# EAGLE library part RP2040 (library RaspberryPi RP2040_PicoPi)
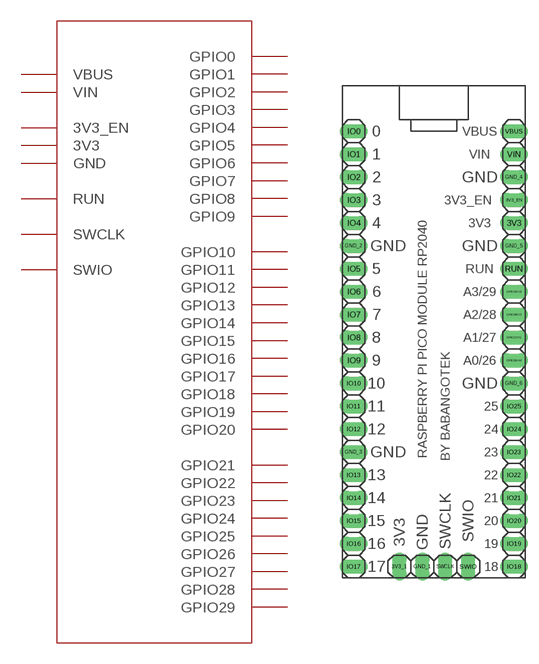
[diagram p0: symbol with the pads of RP2040; footprint RP2040]

Designator prefix -

## RP2040  [RP2040]
3V3  3V3
3V3_1  3V3
3V3_EN  3V3_EN
GND_1  GND
GND_2  GND
GND_3  GND
GND_4  GND
GND_5  GND
GND_6  GND
GPIO26/A0  GPIO26
GPIO27/A1  GPIO27
GPIO28/A2  GPIO28
GPIO29/A3  GPIO29
IO0  GPIO0
IO1  GPIO1
IO2  GPIO2
IO3  GPIO3
IO4  GPIO4
IO5  GPIO5
IO6  GPIO6
IO7  GPIO7
IO8  GPIO8
IO9  GPIO9
IO10  GPIO10
IO11  GPIO11
IO12  GPIO12
IO13  GPIO13
IO14  GPIO14
IO15  GPIO15
IO16  GPIO16
IO17  GPIO17
IO18  GPIO18
IO19  GPIO19
IO20  GPIO20
IO21  GPIO21
IO22  GPIO22
IO23  GPIO23
IO24  GPIO24
IO25  GPIO25
RUN  RUN
SWCLK  SWCLK
SWIO  SWIO
VBUS  VBUS
VIN  VIN

## Footprint RP2040 (pad centres in mm)
drill 1.016 long: 3V3 8.89,10.16; 3V3_1 -3.81,-27.94; 3V3_EN 8.89,12.7; GND_1 -1.27,-27.94; GND_2 -8.89,7.62; GND_3 -8.89,-15.24; GND_4 8.89,15.24; GND_5 8.89,7.62; GND_6 8.89,-7.62; GPIO26/A0 8.89,-5.08; GPIO27/A1 8.89,-2.54; GPIO28/A2 8.89,0; GPIO29/A3 8.89,2.54; IO0 -8.89,20.32; IO1 -8.89,17.78; IO2 -8.89,15.24; IO3 -8.89,12.7; IO4 -8.89,10.16; IO5 -8.89,5.08; IO6 -8.89,2.54; IO7 -8.89,0; IO8 -8.89,-2.54; IO9 -8.89,-5.08; IO10 -8.89,-7.62; IO11 -8.89,-10.16; IO12 -8.89,-12.7; IO13 -8.89,-17.78; IO14 -8.89,-20.32; IO15 -8.89,-22.86; IO16 -8.89,-25.4; IO17 -8.89,-27.94; IO18 8.89,-27.94; IO19 8.89,-25.4; IO20 8.89,-22.86; IO21 8.89,-20.32; IO22 8.89,-17.78; IO23 8.89,-15.24; IO24 8.89,-12.7; IO25 8.89,-10.16; RUN 8.89,5.08; SWCLK 1.27,-27.94; SWIO 3.81,-27.94; VBUS 8.89,20.32; VIN 8.89,17.78